# EAGLE library part MOLEX-53780-2070 (library con-Molex-53780)
Molex 53780 14-way right-angle SMD
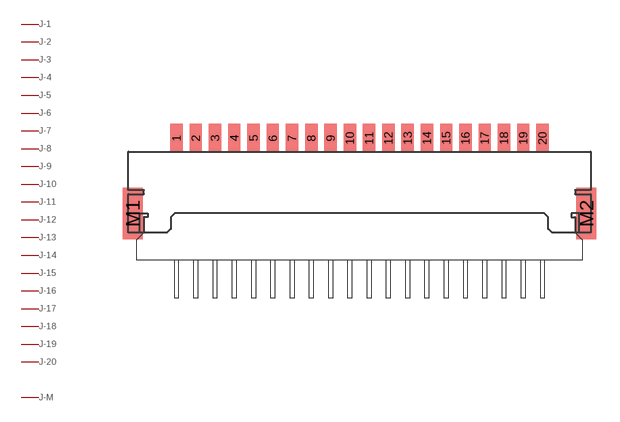
[diagram p3: symbol with the pads of A1251WR-S-20P; footprint A1251WR-S-20P]

Designator prefix J; gates -1=PIN -2=PIN -3=PIN -4=PIN -5=PIN -6=PIN -7=PIN -8=PIN -9=PIN -10=PIN -11=PIN -12=PIN -13=PIN -14=PIN -M=PIN -15=PIN -16=PIN -17=PIN -18=PIN -19=PIN -20=PIN

## MOLEX-53780-2070  [A1251WR-S-20P]
1  -1:P
2  -2:P
3  -3:P
4  -4:P
5  -5:P
6  -6:P
7  -7:P
8  -8:P
9  -9:P
10  -10:P
11  -11:P
12  -12:P
13  -13:P
14  -14:P
15  -15:P
16  -16:P
17  -17:P
18  -18:P
19  -19:P
20  -20:P
M1  -M:P
M2  -M:P

## Footprint A1251WR-S-20P (pad centres in mm)
smd 0.8 x 1.9: 1 -11.875,3.875; 2 -10.625,3.875; 3 -9.375,3.875; 4 -8.125,3.875; 5 -6.875,3.875; 6 -5.625,3.875; 7 -4.375,3.875; 8 -3.125,3.875; 9 -1.875,3.875; 10 -0.625,3.875; 11 0.625,3.875; 12 1.875,3.875; 13 3.125,3.875; 14 4.375,3.875; 15 5.625,3.875; 16 6.875,3.875; 17 8.125,3.875; 18 9.375,3.875; 19 10.625,3.875; 20 11.875,3.875
smd 1.3 x 3.35: M1 -14.725,-1; M2 14.725,-1